# Altium schematic symbol library pedals-diodes.SCHLIB: 18 symbols
Pins are listed as number, name and electrical type; pins without a type are passive.

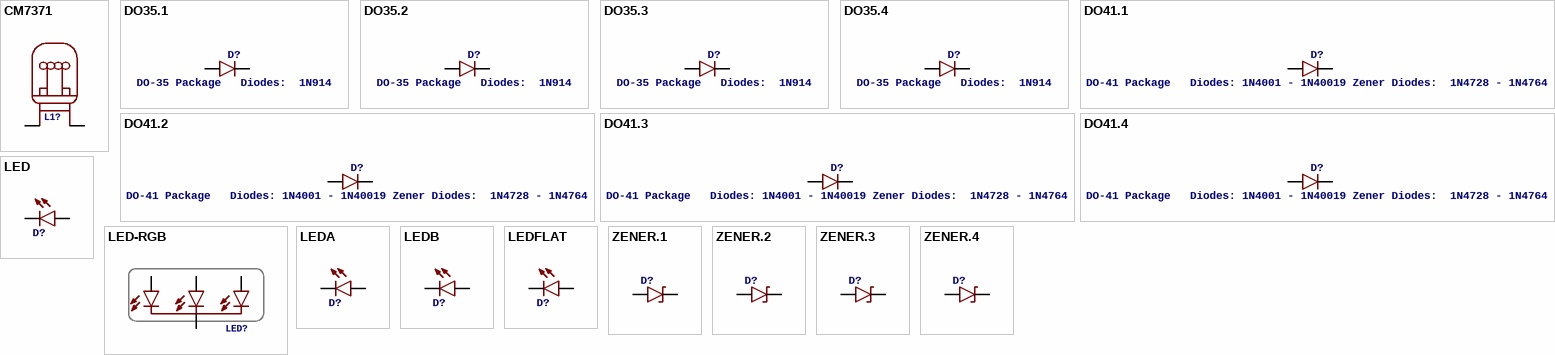
[diagram p0: symbols CM7371 to ZENER.4]

## CM7371
designator L1?
footprint BI-PIN
pins: P$1, P$2

## DO35.1
designator D?, comment DO-35 Package   Diodes:  1N914
footprint DO41-1
pins: A, C

## DO35.2
designator D?, comment DO-35 Package   Diodes:  1N914
footprint DO35-2
pins: A, C

## DO35.3
designator D?, comment DO-35 Package   Diodes:  1N914
footprint DO35-3
pins: A, C

## DO35.4
designator D?, comment DO-35 Package   Diodes:  1N914
footprint DO35-4
pins: A, C

## DO41.1
designator D?, comment DO-41 Package   Diodes: 1N4001 - 1N40019 Zener Diodes:  1N4728 - 1N4764
footprint DO41-1
pins: A, C

## DO41.2
designator D?, comment DO-41 Package   Diodes: 1N4001 - 1N40019 Zener Diodes:  1N4728 - 1N4764
footprint DO41-2
pins: A, C

## DO41.3
designator D?, comment DO-41 Package   Diodes: 1N4001 - 1N40019 Zener Diodes:  1N4728 - 1N4764
footprint DO41-3
pins: A, C

## DO41.4
designator D?, comment DO-41 Package   Diodes: 1N4001 - 1N40019 Zener Diodes:  1N4728 - 1N4764
footprint DO41-4
pins: A, C

## LED
designator D?
footprint 3MM_D
pins: ANODE A, P$1 C

## LED-RGB
designator LED?
footprint 5MM-RGB
pins: 1, 2, 3, 4

## LEDA
designator D?
footprint 3MM_A
pins: A, K C

## LEDB
designator D?
footprint 3MM_B
pins: A, K C

## LEDFLAT
designator D?
footprint 3MM_C
pins: A, K C

## ZENER.1
designator D?
footprint DO41-1
pins: A, C

## ZENER.2
designator D?
footprint DO41-2
pins: A, C

## ZENER.3
designator D?
footprint DO41-3
pins: A, C

## ZENER.4
designator D?
footprint DO41-4
pins: A, C